# EAGLE library part CC-DEBUG (library connectors)
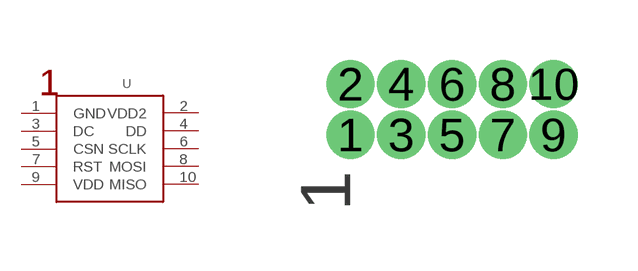
[diagram p0: symbol with the pads of 2X5-1.27MM; footprint 2X5-1.27MM]

Designator prefix -

## CC-DEBUG  [2X5-1.27MM]
1  GND
2  VDD2
3  DC
4  DD
5  CSN
6  SCLK
7  RST
8  MOSI
9  VDD
10  MISO

## Footprint 2X5-1.27MM (pad centres in mm)
drill 0.7 pad 1.016: 1 0,0; 2 0,1.27; 3 1.27,0; 4 1.27,1.27; 5 2.54,0; 6 2.54,1.27; 7 3.81,0; 8 3.81,1.27; 9 5.08,0; 10 5.08,1.27